# EAGLE library part SWITCH (library 0_Library Rev1)
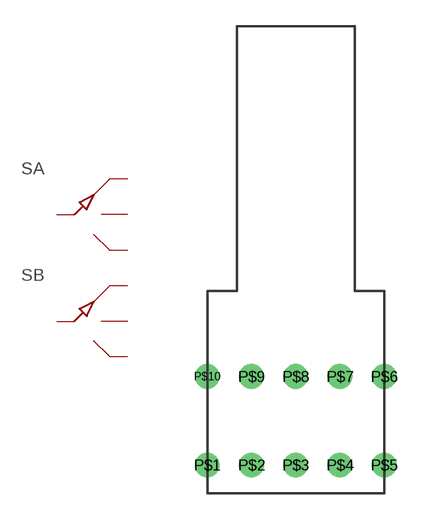
[diagram p3: symbol with the pads of FE06; footprint FE06]

Designator prefix S; gates A=SW_3POS B=SW_3POS

## SWITCH  [FE06]
P$1  A:1  pas
P$2  A:2  pas
P$3  A:3  pas
P$5  A:C  pas
P$6  B:C  pas
P$8  B:3  pas
P$9  B:2  pas
P$10  B:1  pas

## Footprint FE06 (pad centres in mm)
FEMALE HEADER
drill 0.914: P$1 -5.08,-5.08; P$2 -2.54,-5.08; P$3 0,-5.08; P$4 2.54,-5.08; P$5 5.08,-5.08; P$6 5.08,0; P$7 2.54,0; P$8 0,0; P$9 -2.54,0; P$10 -5.08,0